# EAGLE library part MCP4802/4812/4822 (library CEDT)
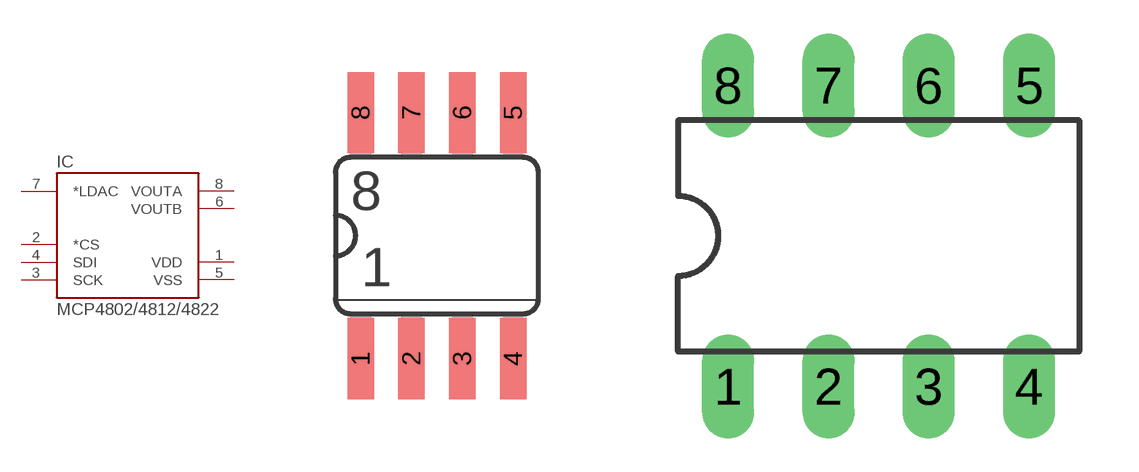
[diagram p56: symbol with the pads of SOIC08; footprints SOIC08, DIL08]

Designator prefix IC

## MCP4802/4812/4822SOIC08  [SOIC08]
1  VDD
2  *CS
3  SCK
4  SDI
5  VSS
6  VOUTB
7  *LDAC
8  VOUTA

## MCP4802/4812/4822  [DIL08]
1  VDD
2  *CS
3  SCK
4  SDI
5  *LDAC
6  VOUTB
7  VSS
8  VOUTA

## Footprint SOIC08 (pad centres in mm)
smd 0.66 x 2.032: 1 -1.905,-3.073; 2 -0.635,-3.073; 3 0.635,-3.073; 4 1.905,-3.073; 5 1.905,3.073; 6 0.635,3.073; 7 -0.635,3.073; 8 -1.905,3.073

## Footprint DIL08 (pad centres in mm)
Dual In Line Package
drill 0.813 long: 1 -3.81,-3.81; 2 -1.27,-3.81; 3 1.27,-3.81; 4 3.81,-3.81; 5 3.81,3.81; 6 1.27,3.81; 7 -1.27,3.81; 8 -3.81,3.81